# EAGLE library part CARAMBOLA (library SchmalzHausPublic)
Carambola WiFi/Linux computer http://www.8devices.com/uploads/downloads/Carambola.pdf http://www.8devices.com/product/3/wi-fi-4-things Must supply 3.3V to run. Must supply 5V if you want to use USB.
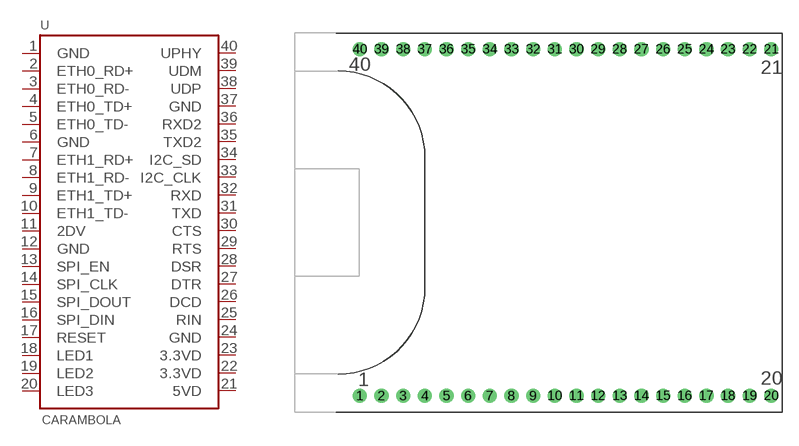
[diagram p1: symbol with the pads of CARAMBOLA; footprint CARAMBOLA]

Designator prefix -

## CARAMBOLA  [CARAMBOLA]
1  GND
2  ETH0_RD+
3  ETH0_RD-
4  ETH0_TD+
5  ETH0_TD-
6  GND
7  ETH1_RD+
8  ETH1_RD-
9  ETH1_TD+
10  ETH1_TD-
11  2DV
12  GND
13  SPI_EN
14  SPI_CLK
15  SPI_DOUT
16  SPI_DIN
17  RESET
18  LED1
19  LED2
20  LED3
21  5VD
22  3.3VD
23  3.3VD
24  GND
25  RIN
26  DCD
27  DTR
28  DSR
29  RTS
30  CTS
31  TXD
32  RXD
33  I2C_CLK
34  I2C_SD
35  TXD2
36  RXD2
37  GND
38  UDP
39  UDM
40  UPHY

## Footprint CARAMBOLA (pad centres in mm)
drill 0.8: 1 -19,-16; 2 -17,-16; 3 -15,-16; 4 -13,-16; 5 -11,-16; 6 -9,-16; 7 -7,-16; 8 -5,-16; 9 -3,-16; 10 -1,-16; 11 1,-16; 12 3,-16; 13 5,-16; 14 7,-16; 15 9,-16; 16 11,-16; 17 13,-16; 18 15,-16; 19 17,-16; 20 19,-16; 21 19,16; 22 17,16; 23 15,16; 24 13,16; 25 11,16; 26 9,16; 27 7,16; 28 5,16; 29 3,16; 30 1,16; 31 -1,16; 32 -3,16; 33 -5,16; 34 -7,16; 35 -9,16; 36 -11,16; 37 -13,16; 38 -15,16; 39 -17,16; 40 -19,16